# EAGLE library part ANALOG_CONN (library mike)
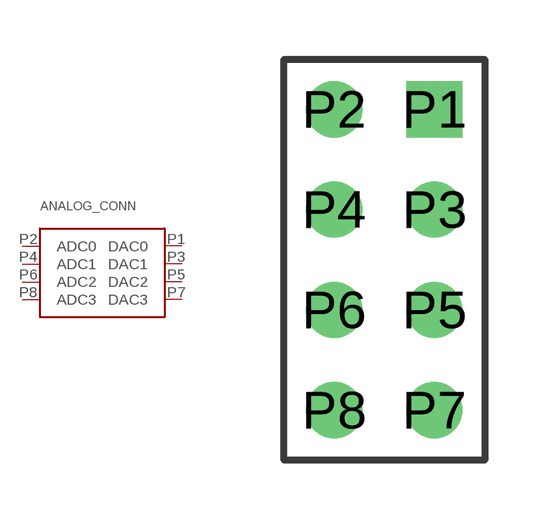
[diagram p17: symbol with the pads of ANALOG_CONN; footprint ANALOG_CONN]

Designator prefix -

## ANALOG_CONN  [ANALOG_CONN]
P1  DAC0
P2  ADC0
P3  DAC1
P4  ADC1
P5  DAC2
P6  ADC2
P7  DAC3
P8  ADC3

## Footprint ANALOG_CONN (pad centres in mm)
drill 0.889 pad 1.422 square: P1 1.27,3.81
drill 0.889 pad 1.422 round: P2 -1.27,3.81; P3 1.27,1.27; P4 -1.27,1.27; P5 1.27,-1.27; P6 -1.27,-1.27; P7 1.27,-3.81; P8 -1.27,-3.81